# EAGLE library part 87520-0010BLF (library Signetics)
USB 2.0 Type A receptacle white Source: Datasheet <https://componentsearchengine.com/Datasheets/1/87520-0010BLF.pdf>
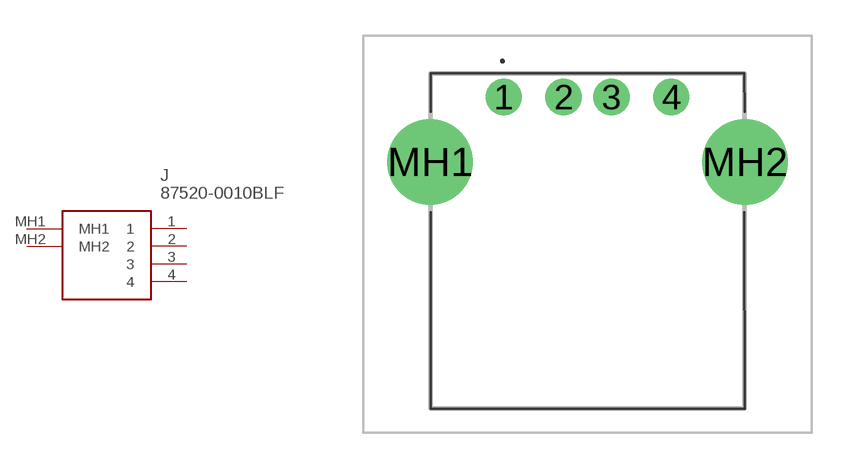
[diagram p16: symbol with the pads of 875200010BLF; footprint 875200010BLF]

Designator prefix J

## 87520-0010BLF (DESCRIPTION: USB 2.0 Type A receptacle white; HEIGHT: 7.8mm; MANUFACTURER_NAME: Amphenol; MANUFACTURER_PART_NUMBER: 87520-0010BLF; MOUSER_PART_NUMBER: 649-87520-0010BLF; MOUSER_PRICE-STOCK: https://www.mouser.co.uk/ProductDetail/Amphenol-FCI/87520-0010BLF?qs=x6EjVpvqMVP%2F2to87x7cdQ%3D%3D)  [875200010BLF]
1  1
2  2
3  3
4  4
MH1  MH1
MH2  MH2

## Footprint 875200010BLF (pad centres in mm)
87520-0010BLF-2
drill 1 pad 1.5: 1 0,0; 2 2.5,0; 3 4.5,0; 4 7,0
drill 2.38 pad 3.57: MH1 -3.07,-2.71; MH2 10.07,-2.71